# EAGLE library part 74HCT273 (library custom)
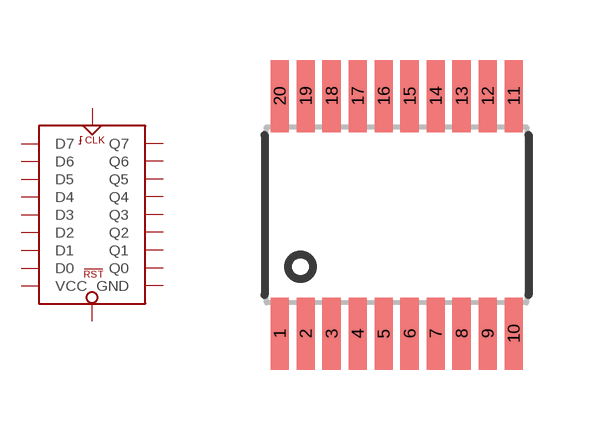
[diagram p21: symbol with the pads of 20-TSSOP; footprint 20-TSSOP]

Designator prefix -

## 74HCT273  [20-TSSOP]
1  MR
2  Q0
3  D0
4  D1
5  Q1
6  Q2
7  D2
8  D3
9  Q3
10  GND
11  CP
12  Q4
13  D4
14  D5
15  Q5
16  Q6
17  D6
18  D7
19  Q7
20  VCC

## Footprint 20-TSSOP (pad centres in mm)
smd 0.45 x 1.8: 1 -2.925,-2.97; 2 -2.275,-2.97; 3 -1.625,-2.97; 4 -0.975,-2.97; 5 -0.325,-2.97; 6 0.325,-2.97; 7 0.975,-2.97; 8 1.625,-2.97; 9 2.275,-2.97; 10 2.925,-2.97; 11 2.925,2.97; 12 2.275,2.97; 13 1.625,2.97; 14 0.975,2.97; 15 0.325,2.97; 16 -0.325,2.97; 17 -0.975,2.97; 18 -1.625,2.97; 19 -2.275,2.97; 20 -2.925,2.97